# Altium schematic symbol library shield_Schlib.SchLib: 32 symbols
Pins are listed as number, name and electrical type; pins without a type are passive.

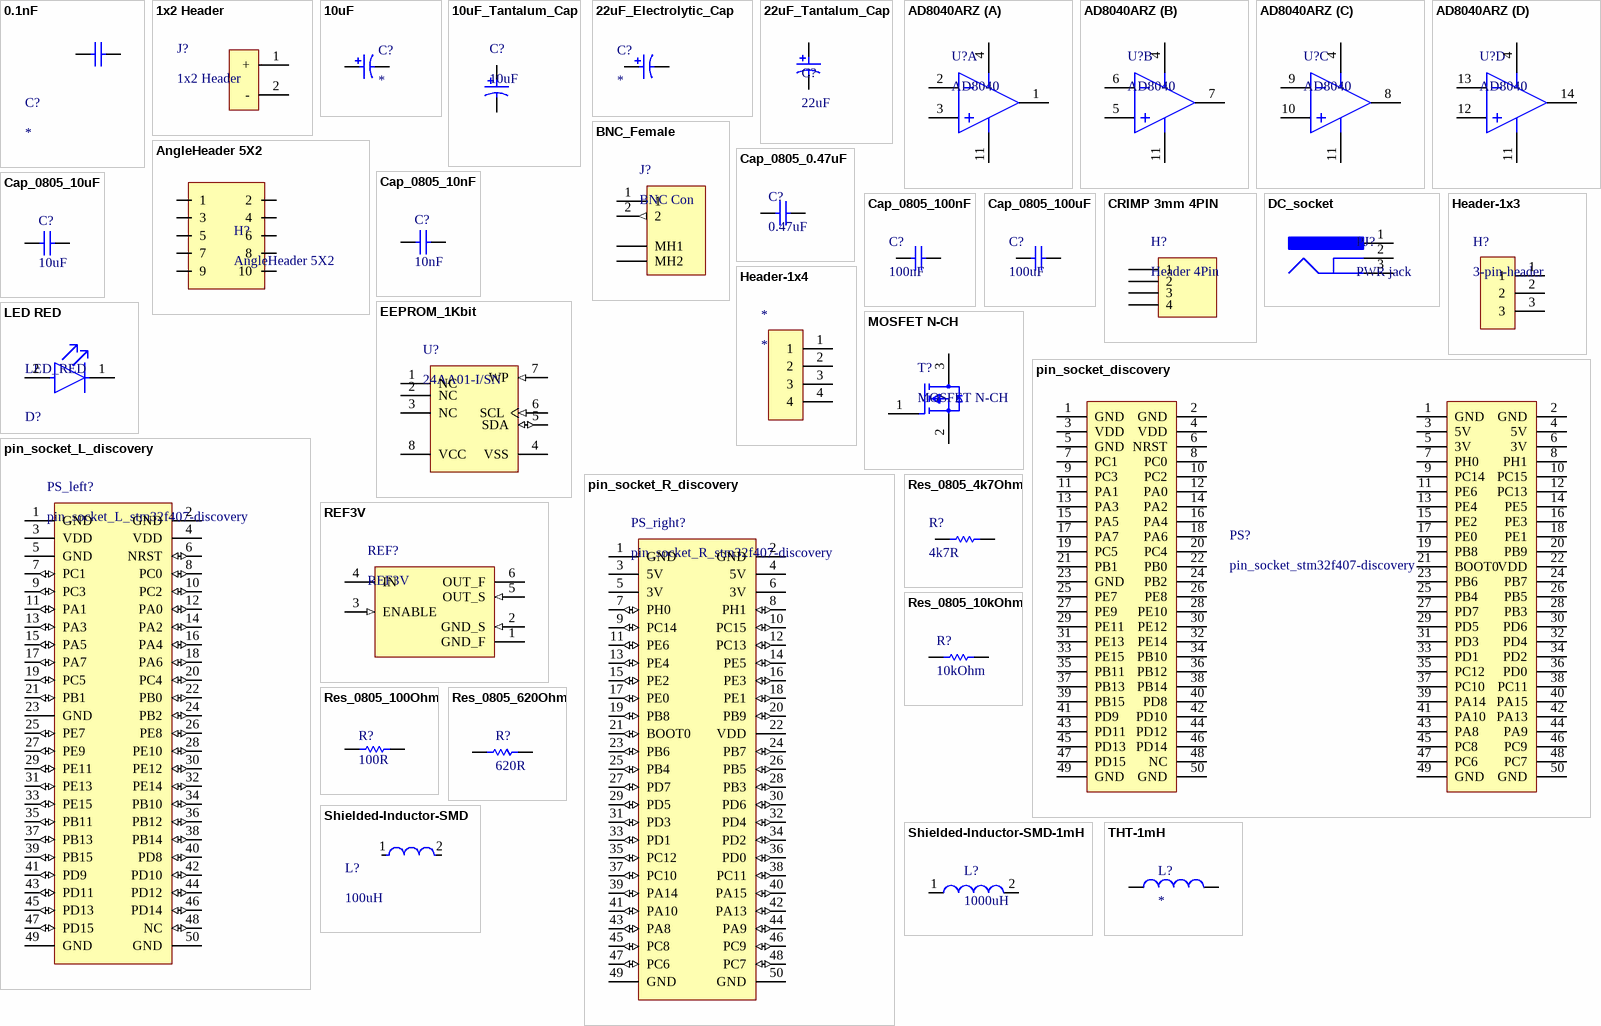
[diagram p0: symbols 0.1nF to THT-1mH]

## 0.1nF
designator C?
CERAMIC CAPACITOR 100PF 200V, C0G, 10%, 0805, FULL REEL; Product Range:-; Capacitance:100pF; Capacitance Tolerance: 10%; Dielectric Characteristic:C0G / NP0; Voltage Rating:200V; Ceramic Capacitor Case:0805 [2012 Metric] ;RoHS Compliant: Yes; Manufacturer: Kyocera AVX; Manufacturer Part Number: 08052A101KAT2A; Supplier 1: Digi-Key; RoHS: Yes; Category: Ceramic Capacitors; Stock 1: 19500; Pricing 1: 1=0,17000, 10=0,12200, 50=0,06940, 100=0,05740, 500=0,04026, 1000=0,03333 (USD); Mount: Surface Mount; Case/Package: 0805; Number of Pins: 2; Case Code (Metric): 2012; Case Code (Imperial): 0805; Min Operating Temperature: -55°C; Max Operating Temperature: 125°C; Capacitance: 100pF; Tolerance: 10%; Package Quantity: 12000; Voltage Rating: 200V; Packaging: Tape and Reel; Voltage Rating (DC): 200V; Dielectric: C0G; Termination: SMD/SMT; Dissipation Factor: 10%; Length: 2.01mm; Width: 0.049inch; Height: 0.94mm; Thickness: 0.037inch; Depth: 1.25mm; Radiation Hardening: No; ComponentLink1URL: https://datasheet.ciiva.com/206/ccog-206194.pdf?src-supplier=Digi-Key; ComponentLink1Description: https://datasheet.ciiva.com/206/ccog-206194.pdf?src-supplier=Digi-Key; ComponentLink2URL: https://datasheet.ciiva.com/5424/ccog-243403-5424072.pdf?src-supplier=Mouser; ComponentLink2Description: https://datasheet.ciiva.com/5424/ccog-243403-5424072.pdf?src-supplier=Mouser; Supplier Part Number 1: 478-08052A101KAT2ACT-ND
footprint CAP-CER-0.1nF (Chip Capacitor, 2-Leads, Body 2.00x1.25mm, IPC Low Density)
pins: 1, 2

## 1x2 Header
designator J?
Conn Shrouded Header (4 Sides) HDR 2 POS 2.5mm Solder ST Thru-Hole Box; Manufacturer: JST; Manufacturer Part Number: B2B-XH-A(LF)(SN); Number of Positions: 2; Connector Type: Male Pin; Contact Resistance: 20mR; Max Current Rating: 3A; Voltage Rating: 250V; Insulation Resistance: 1GR; Wire/Cable Gauge: 22AWG; Supplier 1: Digi-Key; RoHS: Yes; Category: FFC / FPC; Stock 1: 203108; Pricing 1: 1=0,150000, 10=0,141000, 100=0,086800, 500=0,071820, 1000=0,062840, 5000=0,053870, 10000=0,052370 (USD); Mount: Through Hole; Contact Plating: Tin,Copper,Lead; Color: Natural; Contact Material: Brass; Housing Color: White; Housing Material: Polyamide; Min Operating Temperature: -25°C; Max Operating Temperature: 85°C; Number of Rows: 1; Packaging: Bulk; Termination: Solder; Fastening Type: Detent; Current Rating: 3A; Voltage Rating (AC): 250V; Max Voltage Rating (AC): 250V; Number of Contacts: 2; Max Voltage Rating (DC): 250V; Orientation: Straight; Length: 7.4mm; Pitch: 2.5mm; Lead Pitch: 2.5mm; Depth: 5.75mm; REACH SVHC: No SVHC; Lead Free: Lead Free; ComponentLink1URL: https://datasheet.ciiva.com/26894/getdatasheetpartid-640357-26894434.pdf?src-supplier=Verical; ComponentLink1Description: https://datasheet.ciiva.com/26894/getdatasheetpartid-640357-26894434.pdf?src-supplier=Verical; ComponentLink2URL: https://datasheet.ciiva.com/11746/0900766b8082653e-11746979.pdf?src-supplier=RSComponents; ComponentLink2Description: https://datasheet.ciiva.com/11746/0900766b8082653e-11746979.pdf?src-supplier=RSComponents; ComponentLink3URL: https://datasheet.ciiva.com/26894/getdatasheetpartid-385291-26894760.pdf?src-supplier=Verical; ComponentLink3Description: https://datasheet.ciiva.com/26894/getdatasheetpartid-385291-26894760.pdf?src-supplier=Verical; ComponentLink4URL: https://datasheet.ciiva.com/8052/5448-8052024.pdf?src-supplier=Element14; ComponentLink4Description: https://datasheet.ciiva.com/8052/5448-8052024.pdf?src-supplier=Element14; ComponentLink5URL: https://datasheet.ciiva.com/20207/523653-20207167.pdf?src-supplier=Rapid+Electronics; ComponentLink5Description: https://datasheet.ciiva.com/20207/523653-20207167.pdf?src-supplier=Rapid+Electronics; Supplier Part Number 1: 455-2247-ND
footprint JST 2PIN (Header, 2-Leads, Body 7.4x5.75mm, Pitch 2.5mm)
pins: 1 +, 2 -

## 10uF
designator C?
Capacitor; Alum Electrolytic; Cap 10 uF; Tol 20%; Vol-Rtg 16 VDC; SMT; 4x5.5; Cut Tape; Manufacturer: Panasonic; Manufacturer Part Number: EEE-1CA100SR; Dielectric Material: Aluminium; Capacitance: 10uF; Ripple Current: 28mA; Voltage Rating: 16V; Life (Hours): 2000Hour; Polarity: Polar; Leakage Current: 3uA; Lead Length: 1.8mm; Supplier 1: Digi-Key; RoHS: Yes; Category: Aluminum Electrolytic Capacitors; Stock 1: 139125; Pricing 1: 1=0,26000, 10=0,17900, 50=0,11920, 100=0,10130, 500=0,07152, 1000=0,06258 (USD); Mount: Surface Mount,PCB; Case/Package: Radial; Number of Pins: 2; Contact Plating: Tin; Min Operating Temperature: -40°C; Max Operating Temperature: 85°C; Packaging: Tape and Reel; Tolerance: 20%; Ripple Current (AC): 28mA; Voltage Rating (DC): 16V; Package Quantity: 2000; Termination: SMD/SMT; Voltage: 16V; Diameter: 4mm; Length: 5.5mm; Width: 4.3mm; Height: 5.4mm; Height - Seated (Max): 0.213inch; Lead Pitch: 1mm; Radiation Hardening: No; REACH SVHC: No SVHC; Lead Free: Lead Free; ComponentLink1URL: https://datasheet.ciiva.com/11784/0900766b8078636e-11784608.pdf?src-supplier=RSComponents; ComponentLink1Description: https://datasheet.ciiva.com/11784/0900766b8078636e-11784608.pdf?src-supplier=RSComponents; ComponentLink2URL: https://datasheet.ciiva.com/19458/1355487-19458346.pdf?src-supplier=Jameco; ComponentLink2Description: https://datasheet.ciiva.com/19458/1355487-19458346.pdf?src-supplier=Jameco; ComponentLink3URL: https://datasheet.ciiva.com/2983/aba0000ce2-2983908.pdf?src-supplier=Avnet; ComponentLink3Description: https://datasheet.ciiva.com/2983/aba0000ce2-2983908.pdf?src-supplier=Avnet; ComponentLink4URL: https://datasheet.ciiva.com/46435/aba0000ce2-46435189.pdf?src-supplier=Element14; ComponentLink4Description: https://datasheet.ciiva.com/46435/aba0000ce2-46435189.pdf?src-supplier=Element14; ComponentLink5URL: https://datasheet.ciiva.com/16508/aba0000ce2-16508470.pdf?src-supplier=Future+Electronics; ComponentLink5Description: https://datasheet.ciiva.com/16508/aba0000ce2-16508470.pdf?src-supplier=Future+Electronics; ComponentLink6URL: https://datasheet.ciiva.com/43485/aba0000ce2-43485607.pdf?src-supplier=Farnell; ComponentLink6Description: https://datasheet.ciiva.com/43485/aba0000ce2-43485607.pdf?src-supplier=Farnell; ComponentLink7URL: https://datasheet.ciiva.com/14603/70255710-14603768.pdf?src-supplier=Allied+Electronics; ComponentLink7Description: https://datasheet.ciiva.com/14603/70255710-14603768.pdf?src-supplier=Allied+Electronics; ComponentLink8URL: https://datasheet.ciiva.com/17353/aba0000ce2-17353304.pdf?src-supplier=Avnet+Europe; ComponentLink8Description: https://datasheet.ciiva.com/17353/aba0000ce2-17353304.pdf?src-supplier=Avnet+Europe; ComponentLink9URL: https://datasheet.ciiva.com/14589/70255710-14589897.pdf?src-supplier=Allied+Electronics; ComponentLink9Description: https://datasheet.ciiva.com/14589/70255710-14589897.pdf?src-supplier=Allied+Electronics; ComponentLink10URL: https://datasheet.ciiva.com/46388/aba0000ce2-46388105.pdf?src-supplier=Element14; ComponentLink10Description: https://datasheet.ciiva.com/46388/aba0000ce2-46388105.pdf?src-supplier=Element14; ComponentLink11URL: https://datasheet.ciiva.com/11681/aba0000ce2-11681100.pdf?src-supplier=Avnet; ComponentLink11Description: https://datasheet.ciiva.com/11681/aba0000ce2-11681100.pdf?src-supplier=Avnet; ComponentLink12URL: https://datasheet.ciiva.com/6121/aba0000ce2-6121341.pdf?src-supplier=Farnell; ComponentLink12Description: https://datasheet.ciiva.com/6121/aba0000ce2-6121341.pdf?src-supplier=Farnell; Supplier Part Number 1: PCE3878CT-ND
footprint Electrolytic-CAP-10uF (Aluminum Electrolytic Capacitor, 2-Leads, Body 4.5x4.5mm, IPC High Density)
pins: 1, 2

## 10uF_Tantalum_Cap
designator C?, comment 10uF
CAPACITOR, CASE A, 10UF, 10V; Product Range:KEMET - T491 Series; Capacitance:10µF; Capacitance Tolerance:± 10%; Voltage Rating:10V; Capacitor Case Style:1206 [3216 Metric]; Manufacturer Size Code:A; Operating Temperature Max:125°C; ;RoHS Compliant: Yes; Manufacturer: KEMET; Manufacturer Part Number: T491A106K010AT; Dielectric Material: Tantalum; ESR (Equivalent Series Resistance): 4R; Leakage Current: 1uA; Polarity: Polar; Dissipation Factor: 6%; Life (Hours): 2000Hour; Ripple Current: 137mA; Supplier 1: Digi-Key; RoHS: Yes; Category: Tantalum Capacitors; Stock 1: 2242457; Pricing 1: 1=0.37000, 10=0.25400, 50=0.17760, 100=0.15230, 500=0.11420, 1000=0.09644 (USD); Mount: Surface Mount,PCB; Case/Package: 1206; Case Code (Metric): 3216; Case Code (Imperial): 1206; Min Operating Temperature: -55°C; Max Operating Temperature: 125°C; Capacitance: 10uF; Voltage Rating: 10V; Tolerance: 10%; Packaging: Tape and Reel; Package Quantity: 2000; Voltage Rating (DC): 10V; Termination: SMD/SMT; Voltage: 10V; Features: General Purpose; Length: 3.2mm; Width: 0.063inch; Height: 1.6mm; Height - Seated (Max): 0.071inch; Depth: 1.6mm; REACH SVHC: No SVHC; Lead Free: Lead Free; RoHS Compliant: Yes; Supplier Part Number 1: 399-3684-1-ND
footprint TANTALUM_CAP_10uF (Molded TAN Capacitor, 2-Leads, Body 3.4x1.8mm, IPC High Density)
pins: 1, 2

## 22uF_Electrolytic_Cap
designator C?
CAP, ALU ELEC, 22UF, 16V, SMD; Product Range:WX Series; Capacitance:22µF; Voltage Rating:16V; AE Capacitor Case:Radial Can - SMD; Diameter:5mm; ESR:-; Height:5.5mm; Ripple Current AC:37mA; Packaging:Cut Tape; Lifetime @ ;RoHS Compliant: Yes; Manufacturer: Nichicon; Manufacturer Part Number: UWX1C220MCL1GB; Dielectric Material: Aluminium; Polarity: Polar; Leakage Current: 3uA; Life (Hours): 2000Hour; Ripple Current: 37mA; Tolerance: 20%; Dissipation Factor: 0.16%; Supplier 1: Digi-Key; RoHS: Yes; Category: Aluminum Electrolytic Capacitors; Stock 1: 69937; Pricing 1: 1=0,28000, 10=0,19200, 50=0,12800, 100=0,10880, 500=0,07680 (USD); Mount: Surface Mount; Case/Package: Radial; Number of Pins: 2; Contact Plating: Tin; Weight: 0.01lb; Min Operating Temperature: -40°C; Max Operating Temperature: 85°C; Termination: SMD/SMT; Voltage: 16V; Capacitance: 22uF; Voltage Rating: 16V; Packaging: Tape and Reel; Ripple Current (AC): 37mA; Package Quantity: 1; Voltage Rating (DC): 16V; Diameter: 5mm; Length: 5.4mm; Width: 5.3mm; Height: 5.4mm; Height - Seated (Max): 0.213inch; Radiation Hardening: No; Lead Free: Lead Free; REACH SVHC: No SVHC; ComponentLink1URL: https://datasheet.ciiva.com/11778/0900766b80fa3a90-11778641.pdf?src-supplier=RSComponents; ComponentLink1Description: https://datasheet.ciiva.com/11778/0900766b80fa3a90-11778641.pdf?src-supplier=RSComponents; ComponentLink2URL: https://datasheet.ciiva.com/96/e-wx-96195.pdf?src-supplier=Digi-Key; ComponentLink2Description: https://datasheet.ciiva.com/96/e-wx-96195.pdf?src-supplier=Digi-Key; ComponentLink3URL: https://datasheet.ciiva.com/96/e-wx-96197.pdf?src-supplier=Digi-Key; ComponentLink3Description: https://datasheet.ciiva.com/96/e-wx-96197.pdf?src-supplier=Digi-Key; ComponentLink4URL: https://datasheet.ciiva.com/11688/e-wx-11688009.pdf?src-supplier=Avnet; ComponentLink4Description: https://datasheet.ciiva.com/11688/e-wx-11688009.pdf?src-supplier=Avnet; ComponentLink5URL: https://datasheet.ciiva.com/22693/59577-22693561.pdf?src-supplier=Element14; ComponentLink5Description: https://datasheet.ciiva.com/22693/59577-22693561.pdf?src-supplier=Element14; ComponentLink6URL: https://datasheet.ciiva.com/28458/e-wx-28458649.pdf?src-supplier=Element14; ComponentLink6Description: https://datasheet.ciiva.com/28458/e-wx-28458649.pdf?src-supplier=Element14; ComponentLink7URL: https://datasheet.ciiva.com/17354/e-wx-17354876.pdf?src-supplier=Avnet+Europe; ComponentLink7Description: https://datasheet.ciiva.com/17354/e-wx-17354876.pdf?src-supplier=Avnet+Europe; ComponentLink8URL: https://datasheet.ciiva.com/96/e-wx-96196.pdf?src-supplier=Digi-Key; ComponentLink8Description: https://datasheet.ciiva.com/96/e-wx-96196.pdf?src-supplier=Digi-Key; ComponentLink9URL: https://datasheet.ciiva.com/5362/e-wx-11809-5362473.pdf?src-supplier=Mouser; ComponentLink9Description: https://datasheet.ciiva.com/5362/e-wx-11809-5362473.pdf?src-supplier=Mouser; ComponentLink10URL: https://datasheet.ciiva.com/7781/59577-7781465.pdf?src-supplier=Element14; ComponentLink10Description: https://datasheet.ciiva.com/7781/59577-7781465.pdf?src-supplier=Element14; Supplier Part Number 1: 493-2101-1-ND
footprint Electrolytic-Cap-22uF
pins: 1, 2

## 22uF_Tantalum_Cap
designator C?, comment 22uF
VISHAY - 293D226X9020D2TE3 - Surface Mount Tantalum Capacitor, TANTAMOUNT®, 22 µF, 20 V, 2917 [7343 Metric], 293D Series, ± 10%; Manufacturer: Vishay Sprague; ESR (Equivalent Series Resistance): 700mR; Voltage Rating: 20V; Leakage Current: 4.4uA; Polarity: Polar; Dissipation Factor: 6%; Ripple Current: 200mA; Supplier 1: Digi-Key; Manufacturer Part Number: 293D226X9020D2TE3; RoHS: Yes; Category: Tantalum Capacitors; Stock 1: 854; Pricing 1: 1=0.91000, 10=0.69200, 50=0.57460, 100=0.49490 (USD); Mount: Surface Mount,PCB; Case/Package: 2917; Number of Pins: 2; Case Code (Metric): 7343; Case Code (Imperial): 2917; Dielectric Material: Tantalum; Min Operating Temperature: -55°C; Max Operating Temperature: 125°C; Capacitance: 22uF; Tolerance: 10%; Packaging: Tape and Reel; Package Quantity: 1; Voltage Rating (DC): 20V; Termination: SMD/SMT; Features: General Purpose; Series: TANTAMOUNT® 293D; Construction: Flat; Length: 7.3mm; Width: 0.169inch; Height: 2.8mm; Height - Seated (Max): 0.122inch; Depth: 4.3mm; Radiation Hardening: No; REACH SVHC: Unknown; Lead Free: Lead Free; RoHS Compliant: Yes; ComponentLink1URL: https://datasheet.ciiva.com/16470/293d-16470693.pdf?src-supplier=Avnet+Asia; ComponentLink1Description: https://datasheet.ciiva.com/16470/293d-16470693.pdf?src-supplier=Avnet+Asia; ComponentLink2URL: https://datasheet.ciiva.com/22731/1731814-22731702.pdf?src-supplier=Element14; ComponentLink2Description: https://datasheet.ciiva.com/22731/1731814-22731702.pdf?src-supplier=Element14; ComponentLink3URL: https://datasheet.ciiva.com/16632/293d-16632440.pdf?src-supplier=Avnet+Europe; ComponentLink3Description: https://datasheet.ciiva.com/16632/293d-16632440.pdf?src-supplier=Avnet+Europe; ComponentLink4URL: https://datasheet.ciiva.com/259/293d-259577.pdf?src-supplier=Digi-Key; ComponentLink4Description: https://datasheet.ciiva.com/259/293d-259577.pdf?src-supplier=Digi-Key; ComponentLink5URL: https://datasheet.ciiva.com/259/293d-259578.pdf?src-supplier=Digi-Key; ComponentLink5Description: https://datasheet.ciiva.com/259/293d-259578.pdf?src-supplier=Digi-Key; ComponentLink6URL: https://datasheet.ciiva.com/259/293d-259579.pdf?src-supplier=Digi-Key; ComponentLink6Description: https://datasheet.ciiva.com/259/293d-259579.pdf?src-supplier=Digi-Key; ComponentLink7URL: https://datasheet.ciiva.com/12883/293d-239871-12883100.pdf?src-supplier=Mouser; ComponentLink7Description: https://datasheet.ciiva.com/12883/293d-239871-12883100.pdf?src-supplier=Mouser; ComponentLink8URL: https://datasheet.ciiva.com/18444/70212567-18444012.pdf?src-supplier=Allied+Electronics; ComponentLink8Description: https://datasheet.ciiva.com/18444/70212567-18444012.pdf?src-supplier=Allied+Electronics; ComponentLink9URL: https://datasheet.ciiva.com/3003/293d-3003934.pdf?src-supplier=Avnet; ComponentLink9Description: https://datasheet.ciiva.com/3003/293d-3003934.pdf?src-supplier=Avnet; ComponentLink10URL: https://datasheet.ciiva.com/3003/293d-3003935.pdf?src-supplier=Avnet; ComponentLink10Description: https://datasheet.ciiva.com/3003/293d-3003935.pdf?src-supplier=Avnet; Supplier Part Number 1: 718-1069-1-ND
footprint Tantalum_Cap_SMD_22uF (Molded Capacitor, 2-Leads, Body 7.6x4.6mm, IPC Low Density)
pins: 1, 2

## AD8040ARZ
designator U?, comment AD8040
Quad Channel RRIO Operational Amplifier, 125 MHz BW, 62 V/us SR, Industrial, 14-pin SOIC (R-14), Tube; Manufacturer: Analog Devices; PartNumber: AD8040ARZ; Slew Rate: 62V/us; Amplifiers Per Package: 4; V Span Max: 12V; Input Offset Voltage: 1.6mV; Small Signal Bandwidth: 125MHz; Iq/Amp: 1.5mA; V Span Min: 2.7V; Input Bias Current: 700nA; ComponentLink2Description: Datasheet; ComponentLink3Description: Package Specification; ComponentLink1Description: Manufacturer URL; Generic Part Number: AD8040; ComponentLink2URL: http://www.analog.com/static/imported-files/data_sheets/AD8029_8030_8040.pdf; PackageDescription: 14-Pin Standard Small Outline Package, Body 8.65 x 3.9 mm, Pitch 1.27 mm; Code_JEDEC: MS-012-AB; ComponentLink1URL: http://www.analog.com/en/index.html; DatasheetVersion: Rev. B; PackageVersion: 060606-A; ComponentLink3URL: http://www.analog.com/static/imported-files/packages/PKG_PDF/SOIC_Narrow%20(R)/R_14.pdf; Mounting Technology: Surface Mount; PackageReference: R-14
footprint AD8040 (SOIC, 14-Leads, Body 8.65x3.9mm, Pitch 1.27mm, IPC Low Density)
pins on every part: 4 +VS (power), 11 -VS (power)
part A pins: 1 VOUT 1, 2 -IN 1, 3 +IN 1
part B pins: 5 +IN 2, 6 -IN 2, 7 VOUT 2
part C pins: 8 VOUT 3, 9 -IN 3, 10 +IN 3
part D pins: 12 +IN 4, 13 -IN 4, 14 VOUT 4

## AngleHeader 5X2
designator H?
footprint AngleHeader 5X2 (10 pins, right angled, gold plating)
pins: 1, 2 3, 3 5, 4 7, 5 9, 6 2, 7 4, 8 6, 9 8, 10

## BNC_Female
designator J?, comment BNC Con
Female Connector, Pitch 2.54 mm, 1 x 2 Position, Height 15.8 mm, Tail Length 3.8 mm, / -55 to 85 degC, RoHS, Bulk; Manufacturer: TE Connectivity; Connector Body Style: RightAngleJack; Frequency Max: 4GHz; Coaxial Termination: Solder; Connector Mounting: PCBMount; SVHC: ToBeAdvised; Connector Type: BNCCoaxial; Impedance: 50ohm; Coaxial Cable Types: -; Manufacturer URL: http://www.te.com/; Package Reference: 1-1337543-0; Product Range: -; Datasheet URL: http://www.te.com/commerce/DocumentDelivery/DDEController?Action=showdoc&DocId=Customer+Drawing%7F1337543%7FG%7Fpdf%7FEnglish%7FENG_CD_1337543_G.pdf%7F1-1337543-0; Contact Plating: GoldPlatedContacts; Mounting Technology: ThroughHole; Package Description: Female Connector, Pitch 2.54 mm, 1 x 2 Position, Height 15.8 mm, Tail Length 3.8 mm; Contact Material: Brass; Datasheet Version: Rev. G, 12/2012
footprint BNC_CONNECTOR_F (SMD, 2-Leads, Body 34.9x14.7mm, Pitch 2.54mm)
pins: 1, 2 (out), MH1, MH2

## Cap_0805_0.47uF
designator C?, comment 0.47uF
Multilayer Ceramic Capacitors MLCC - SMD/SMT 10volts 0.47uF X7R 10%; Manufacturer: KEMET; Manufacturer Part Number: C0805C474K8RACTU; Capacitance: 470nF; Voltage Rating: 10V; Supplier 1: Digi-Key; RoHS: Yes; Category: Ceramic Capacitors; Stock 1: 149446; Pricing 1: 1=0,20000, 10=0,13600, 50=0,08160, 100=0,06900, 500=0,04720, 1000=0,04175 (USD); Mount: Surface Mount; Case/Package: 0805; Weight: 0.000194oz; Case Code (Metric): 2012; Case Code (Imperial): 0805; Dielectric Material: Ceramic; Min Operating Temperature: -55°C; Max Operating Temperature: 125°C; Package Quantity: 1; Tolerance: 10%; Packaging: Tape and Reel; Voltage Rating (DC): 10V; Dielectric: X7R; Termination: SMD/SMT; Length: 2mm; Height: 0.9mm; Width: 0.049inch; Thickness: 0.055inch; Depth: 1.25mm; Radiation Hardening: No; REACH SVHC: No SVHC; ComponentLink1URL: http://www.mouser.com/ds/2/212/KEM_C1002_X7R_SMD-1102033.pdf?src-supplier=Mouser; ComponentLink1Description: http://www.mouser.com/ds/2/212/KEM_C1002_X7R_SMD-1102033.pdf?src-supplier=Mouser; ComponentLink2URL: http://components.arrow.com/part/dataview/0323_00331026?src-supplier=Arrow+Europe; ComponentLink2Description: http://components.arrow.com/part/dataview/0323_00331026?src-supplier=Arrow+Europe; ComponentLink3URL: https://api.kemet.com/component-edge/download/datasheet/C0805C474K8RACTU.pdf?src-supplier=Digi-Key; ComponentLink3Description: https://api.kemet.com/component-edge/download/datasheet/C0805C474K8RACTU.pdf?src-supplier=Digi-Key; ComponentLink4URL: https://search.kemet.com/component-edge/download/datasheet/C0805C474K8RACTU.pdf?src-supplier=Digi-Key; ComponentLink4Description: https://search.kemet.com/component-edge/download/datasheet/C0805C474K8RACTU.pdf?src-supplier=Digi-Key; ComponentLink5URL: http://capacitoredge.kemet.com/capedge2/DataSheet?pn=C0805C474K8RACTU&src-supplier=Avnet; ComponentLink5Description: http://capacitoredge.kemet.com/capedge2/DataSheet?pn=C0805C474K8RACTU&src-supplier=Avnet; ComponentLink6URL: http://components.arrow.com/part/dataview/2092505S3976494N7429?src-supplier=Arrow; ComponentLink6Description: http://components.arrow.com/part/dataview/2092505S3976494N7429?src-supplier=Arrow; Supplier Part Number 1: 399-9247-1-ND
footprint CHIP CAPACITOR 0805 (Chip Capacitor, 2-Leads, Body 2.00x1.25mm, IPC Low Density)
pins: 1, 2

## Cap_0805_10nF
designator C?, comment 10nF
Manufacturer: Kemet; Part Number: C0805C103K5RACTU
footprint CHIP CAPACITOR 0805 (Chip Capacitor, 2-Leads, Body 2.00x1.25mm, IPC Low Density)
pins: 1, 2
1 alternate drawing of the same symbol

## Cap_0805_10uF
designator C?, comment 10uF
Cap 0805 10uF; Part Number: C0805C106K8PACTU; Manufacturer: Kemet
footprint CHIP CAPACITOR 0805 (Chip Capacitor, 2-Leads, Body 2.00x1.25mm, IPC Low Density)
pins: 1, 2
1 alternate drawing of the same symbol

## Cap_0805_100nF
designator C?, comment 100nF
YAGEO - CC0805KRX7R7BB104 - SMD Multilayer Ceramic Capacitor, 0.1 µF, 16 V, 0805 [2012 Metric], ± 10%, X7R, CC Series; Voltage Rating: 16V; Insulation Resistance: 100GR; Supplier 1: Digi-Key; Manufacturer: Yageo; RoHS: Yes; Category: Ceramic Capacitors; Stock 1: 223308; Pricing 1: 1=0,12000, 10=0,08500, 50=0,04820, 100=0,03990, 500=0,02794, 1000=0,02314 (USD); Mount: Surface Mount; Case/Package: 0805; Number of Pins: 2; Case Code (Metric): 2012; Case Code (Imperial): 0805; Min Operating Temperature: -55°C; Max Operating Temperature: 125°C; Capacitance: 100nF; Tolerance: 10%; Packaging: Tape and Reel; Dielectric: X7R; Package Quantity: 1; Voltage Rating (DC): 16V; Termination: SMD/SMT; Voltage: 16V; Resistor Type: Ceramic; Length: 2mm; Width: 0.049inch; Height: 0.85mm; Depth: 1.25mm; Thickness: 0.033inch; Radiation Hardening: No; Lead Free: Lead Free; REACH SVHC: No SVHC; Halogen Free: Halogen Free; ComponentLink1URL: https://datasheet.ciiva.com/8034/1784427-8034017.pdf?src-supplier=Element14; ComponentLink1Description: https://datasheet.ciiva.com/8034/1784427-8034017.pdf?src-supplier=Element14; ComponentLink2URL: https://datasheet.ciiva.com/11786/0900766b80d84f1d-11786102.pdf?src-supplier=RSComponents; ComponentLink2Description: https://datasheet.ciiva.com/11786/0900766b80d84f1d-11786102.pdf?src-supplier=RSComponents; ComponentLink3URL: https://datasheet.ciiva.com/15189/getdatasheetpartid-314877-15189221.pdf?src-supplier=Verical; ComponentLink3Description: https://datasheet.ciiva.com/15189/getdatasheetpartid-314877-15189221.pdf?src-supplier=Verical; ComponentLink4URL: https://datasheet.ciiva.com/144/mlccorderingcode-144998.pdf?src-supplier=Digi-Key; ComponentLink4Description: https://datasheet.ciiva.com/144/mlccorderingcode-144998.pdf?src-supplier=Digi-Key; ComponentLink5URL: https://datasheet.ciiva.com/144/mlccorderingcode-144999.pdf?src-supplier=Digi-Key; ComponentLink5Description: https://datasheet.ciiva.com/144/mlccorderingcode-144999.pdf?src-supplier=Digi-Key; ComponentLink6URL: https://datasheet.ciiva.com/145/mlccorderingcode-145000.pdf?src-supplier=Digi-Key; ComponentLink6Description: https://datasheet.ciiva.com/145/mlccorderingcode-145000.pdf?src-supplier=Digi-Key; ComponentLink7URL: https://datasheet.ciiva.com/11465/upy-gphc-x7r-6-3v-to-50v-8-11465289.pdf?src-supplier=Avnet; ComponentLink7Description: https://datasheet.ciiva.com/11465/upy-gphc-x7r-6-3v-to-50v-8-11465289.pdf?src-supplier=Avnet; ComponentLink8URL: https://datasheet.ciiva.com/17436/upy-gphc-x7r-6-3v-to-50v-8-17436617.pdf?src-supplier=Avnet+Europe; ComponentLink8Description: https://datasheet.ciiva.com/17436/upy-gphc-x7r-6-3v-to-50v-8-17436617.pdf?src-supplier=Avnet+Europe; ComponentLink9URL: https://datasheet.ciiva.com/7978/1489800-7978204.pdf?src-supplier=Element14; ComponentLink9Description: https://datasheet.ciiva.com/7978/1489800-7978204.pdf?src-supplier=Element14; ComponentLink10URL: https://datasheet.ciiva.com/8034/1784427-8034015.pdf?src-supplier=Element14; ComponentLink10Description: https://datasheet.ciiva.com/8034/1784427-8034015.pdf?src-supplier=Element14; Manufacturer Part Number: CC0805KRX7R7BB104; Supplier Part Number 1: 311-1142-1-ND
footprint CHIP CAPACITOR 0805 (Chip Capacitor, 2-Leads, Body 2.00x1.25mm, IPC Low Density)
pins: 1, 2

## Cap_0805_100uF
designator C?, comment 100uF
Chip Capacitor, 100 uF, +/- 20%, 6.3 V, -55 to 85 degC, 0805 (2012 Metric), RoHS, Tape and Reel; Manufacturer: Murata; Voltage Rating (DC): 6.3V; Dielectric: X5R; RoHSCompliant: True; Case Code (Metric): 2012; Manufacturer URL: http://www.murata.com/; Length: 0.079inch; Mounting Technology: SurfaceMount; Datasheet URL: http://search.murata.co.jp/Ceramy/image/img/A01X/G101/ENG/GRM21BR60J107ME15-01.pdf; Max Operating Temperature: 85degC; Thickness: 0.057inch; Capacitance: 100uF; REACH SVHC: NoSVHC; Case Code (Imperial): 0805; Voltage Rating: 6.3V; Case/Package: 0805; Lead Free: LeadFree; Datasheet Version: 03/2016; Min Operating Temperature: -55degC; Package Reference: 805; Mount: SurfaceMount; Tolerance: 20%; Width: 0.049inch; Packaging: CutTape; Package Description: 2-Pin Surface Mount Device, Body 2 x 1.25 mm
footprint CHIP CAPACITOR 0805 (Chip Capacitor, 2-Leads, Body 2.00x1.25mm, IPC Low Density)
pins: 1, 2

## CRIMP 3mm 4PIN
designator H?, comment Header 4Pin
footprint CRIMP 3mm  4 pins
pins: 1, 2, 3, 4

## DC_socket
designator PJ?, comment PWR jack
CONN PWR JACK 2.5X5.5MM SOLDER; Manufacturer: CUI; Manufacturer Part Number: PJ-102B; Shielding: Unshielded; Current Rating: 2.5A; Gender: Male; Voltage Rating: 24V; Number of Conductors: 2; Insulation Resistance: 100MR; Supplier 1: Digi-Key; RoHS: Yes; Category: Connectors; Stock 1: 26389; Pricing 1: 1=0,64000, 10=0,60000, 25=0,54000, 50=0,48000, 100=0,46000, 250=0,42000, 500=0,40000, 1000=0,33000, 2500=0,30000 (USD); Mount: Through Hole; Contact Plating: Nickel; Color: Black; Contact Material: Copper; Housing Color: Black; Housing Material: Thermoplastic; Min Operating Temperature: -25°C; Max Operating Temperature: 85°C; Packaging: Bulk; Package Quantity: 280; Termination: Through Hole; Orientation: Horizontal; Connector Type: Jack; Contact Gender: Male; Diameter: 2.5mm; Lead Free: Lead Free; Flammability Rating: UL94 V-0; ComponentLink1URL: http://www.mouser.com/ds/2/670/PJ-102B-524146.pdf?src-supplier=Mouser; ComponentLink1Description: http://www.mouser.com/ds/2/670/PJ-102B-524146.pdf?src-supplier=Mouser; ComponentLink2URL: http://www.cui.com/Product/Resource/FuturePDF/PJ-102B.pdf?src-supplier=Future+Electronics; ComponentLink2Description: http://www.cui.com/Product/Resource/FuturePDF/PJ-102B.pdf?src-supplier=Future+Electronics; ComponentLink3URL: https://www.cui.com/product/resource/digikeypdf/pj-102b.pdf?src-supplier=Digi-Key; ComponentLink3Description: https://www.cui.com/product/resource/digikeypdf/pj-102b.pdf?src-supplier=Digi-Key; Supplier Part Number 1: CP-102B-ND
footprint DC SOCKET (THD, 3-Leads, Body 14.4x9mm, Height 11mm)
pins: 1, 2, 3

## EEPROM_1Kbit
designator U?, comment 24AA01-I/SN
1Kbit, 400kHz, 1.8V, I2C Serial EEPROM, 8-Pin SOIC 150mil, Industrial Temperature; PackageDescription: 8-Lead Plastic Small Outline (SN) - Narrow, 3.90mm Body [SOIC]; DatasheetVersion: revJ, Jan-2009; PackageVersion: revBB, Aug-2009; Code_IPC: SOIC127P600-8; Code_JEDEC: MS-012; PackageReference: SOIC-SN8
footprint EEPROM CHIP (SOIC, 8-Leads, Body 4.9x3.9mm, Pitch 1.27mm, IPC Low Density)
pins: 1 NC, 2 NC, 3 NC, 4 VSS (power), 5 SDA (io), 6 SCL (in), 7 WP (in), 8 VCC (power)

## Header-1x3
designator H?, comment 3-pin-header
CONN HEADER VERT 3POS 2MM; Manufacturer: 3M; Manufacturer Part Number: 951103-8622-AR; Number of Positions: 3; Connector Type: Male Pin; Gender: Male; Current Rating: 1A; Voltage Rating: 1kV; Contact Resistance: 20mR; Contact Post Length: 2.8mm; Supplier 1: Digi-Key; RoHS: Yes; Category: Headers and Wire Housings; Stock 1: 1610; Pricing 1: 1=0,29000, 10=0,27500, 25=0,23560, 50=0,20020, 100=0,19230, 250=0,17264, 500=0,16480 (USD); Mount: Through Hole; Color: Black; Contact Plating: Gold; Contact Material: Copper Alloy,Copper; Housing Material: Thermoplastic; Housing Color: Black; Min Operating Temperature: -25°C; Max Operating Temperature: 105°C; Number of Rows: 1; Packaging: Bulk; Termination: Solder; Number of Contacts: 3; Package Quantity: 3000; Contact Gender: Male; Orientation: Straight; Max Current Rating: 1A; Length: 6mm; Pitch: 2mm; Contact Mating Length: 0.173inch; Depth: 2mm; REACH SVHC: Unknown; ComponentLink1URL: https://datasheet.ciiva.com/730/ts2156-730432.pdf?src-supplier=Digi-Key; ComponentLink1Description: https://datasheet.ciiva.com/730/ts2156-730432.pdf?src-supplier=Digi-Key; ComponentLink2URL: https://datasheet.ciiva.com/14622/70237750-14622743.pdf?src-supplier=Allied+Electronics; ComponentLink2Description: https://datasheet.ciiva.com/14622/70237750-14622743.pdf?src-supplier=Allied+Electronics; ComponentLink3URL: https://datasheet.ciiva.com/7997/ts2156-7997244.pdf?src-supplier=Element14; ComponentLink3Description: https://datasheet.ciiva.com/7997/ts2156-7997244.pdf?src-supplier=Element14; Supplier Part Number 1: 3M156413-03-ND
footprint Header-3-Pin
pins: 1, 2, 3

## Header-1x4
designator *
footprint Header-1x4
pins: 1, 2, 3, 4

## LED RED
designator D?, comment LED_RED
LED RED CLEAR CHIP SMD; Forward Current: 30mA; Test Current: 10mA; Number of Elements: 1; Viewing Angle: 130°; Dominant Wavelength: 621nm; Forward Voltage: 2V; Lens Style: Diffused; Power Rating: 100mW; Reverse Voltage: 5V; Wavelength: 630nm; Luminous Intensity: 6mcd; Lens Color: Colorless; Case/Package: 1206; Case Code (Imperial): 1206; Package Quantity: 1; Lead Free: Lead Free; Case Code (Metric): 3216; Height: 1.1mm; Lens Transparency: Clear; Mount: Surface Mount; Depth: 1.6mm; Number of LEDs: 1; Power Dissipation: 100mW; Max Operating Temperature: 85°C; Width: 1.6mm; Color: Red; Number of Pins: 2; Min Operating Temperature: -55°C; Packaging: Tape and Reel; Radiation Hardening: No; Illumination Color: Red; Length: 3.2mm
footprint LED 0805 RED
pins: 1 C, 2 A

## MOSFET N-CH
designator T?
Trans MOSFET N-CH 30V 5.7A 3-Pin SOT-23; Manufacturer: Alpha & Omega Semiconductor; Manufacturer Part Number: AO3400A; Max Power Dissipation: 1.4W; Input Capacitance: 630pF; Gate to Source Voltage (Vgs): 12V; Rds On Max: 26.5mR; Number of Elements: 1; Supplier 1: Digi-Key; RoHS: Yes; Category: MOSFETs; Pricing 1: 1=0,36000, 10=0,27500, 25=0,24760, 100=0,13050, 500=0,11566, 1000=0,09000 (USD); Mount: Surface Mount; Case/Package: SOT-23; Number of Pins: 3; Min Operating Temperature: -55°C; Max Operating Temperature: 150°C; Packaging: Tape and Reel; Drain to Source Voltage (Vdss): 30V; Continuous Drain Current (ID): 5.7A; Power Dissipation: 1.4W; Radiation Hardening: No; Lead Free: Lead Free; ComponentLink1URL: https://datasheet.ciiva.com/940/ao3400a-940739.pdf?src-supplier=Digi-Key; ComponentLink1Description: https://datasheet.ciiva.com/940/ao3400a-940739.pdf?src-supplier=Digi-Key; ComponentLink2URL: https://datasheet.ciiva.com/26906/getdatasheetpartid-64438-26906526.pdf?src-supplier=Verical; ComponentLink2Description: https://datasheet.ciiva.com/26906/getdatasheetpartid-64438-26906526.pdf?src-supplier=Verical; ComponentLink3URL: https://datasheet.ciiva.com/940/ao3400a-940740.pdf?src-supplier=Digi-Key; ComponentLink3Description: https://datasheet.ciiva.com/940/ao3400a-940740.pdf?src-supplier=Digi-Key; ComponentLink4URL: https://datasheet.ciiva.com/940/ao3400a-940741.pdf?src-supplier=Digi-Key; ComponentLink4Description: https://datasheet.ciiva.com/940/ao3400a-940741.pdf?src-supplier=Digi-Key; Supplier Part Number 1: 785-1000-1-ND
footprint MOSFET N-CH
pins: 1 G, 2 S, 3 D

## pin_socket_discovery
designator PS?, comment pin_socket_stm32f407-discovery
Socket for STM32F407-discovery pinout
footprint PIN SOCKET DISCOVERY
pins: 1 GND, 1 GND, 2 GND, 2 GND, 3 VDD, 3 5V, 4 VDD, 4 5V, 5 GND, 5 3V, 6 NRST, 6 3V, 7 PC1, 7 PH0, 8 PC0, 8 PH1, 9 PC3, 9 PC14, 10 PC2, 10 PC15, 11 PA1, 11 PE6, 12 PA0, 12 PC13, 13 PA3, 13 PE4, 14 PA2, 14 PE5, 15 PA5, 15 PE2, 16 PA4, 16 PE3, 17 PA7, 17 PE0, 18 PA6, 18 PE1, 19 PC5, 19 PB8, 20 PC4, 20 PB9, 21 PB1, 21 BOOT0, 22 PB0, 22 VDD, 23 GND, 23 PB6, 24 PB2, 24 PB7, 25 PE7, 25 PB4, 26 PE8, 26 PB5, 27 PE9, 27 PD7, 28 PE10, 28 PB3, 29 PE11, 29 PD5, 30 PE12, 30 PD6, 31 PE13, 31 PD3, 32 PE14, 32 PD4, 33 PE15, 33 PD1, 34 PB10, 34 PD2, 35 PB11, 35 PC12, 36 PB12, 36 PD0, 37 PB13, 37 PC10, 38 PB14, 38 PC11, 39 PB15, 39 PA14, 40 PD8, 40 PA15, 41 PD9, 41 PA10, 42 PD10, 42 PA13, 43 PD11, 43 PA8, 44 PD12, 44 PA9, 45 PD13, 45 PC8, 46 PD14, 46 PC9, 47 PD15, 47 PC6, 48 NC, 48 PC7, 49 GND, 49 GND, 50 GND, 50 GND

## pin_socket_L_discovery
designator PS_left?, comment pin_socket_L_stm32f407-discovery
Socket for STM32F407-discovery pinout
footprint pin_socket_L_discovery
pins: 1 GND, 2 GND, 3 VDD (power), 4 VDD (power), 5 GND, 6 NRST (io), 7 PC1 (io), 8 PC0 (io), 9 PC3 (io), 10 PC2 (io), 11 PA1 (io), 12 PA0 (io), 13 PA3 (io), 14 PA2 (io), 15 PA5 (io), 16 PA4 (io), 17 PA7 (io), 18 PA6 (io), 19 PC5 (io), 20 PC4 (io), 21 PB1 (io), 22 PB0 (io), 23 GND, 24 PB2 (io), 25 PE7 (io), 26 PE8 (io), 27 PE9 (io), 28 PE10 (io), 29 PE11 (io), 30 PE12 (io), 31 PE13 (io), 32 PE14 (io), 33 PE15 (io), 34 PB10 (io), 35 PB11 (io), 36 PB12 (io), 37 PB13 (io), 38 PB14 (io), 39 PB15 (io), 40 PD8 (io), 41 PD9 (io), 42 PD10 (io), 43 PD11 (io), 44 PD12 (io), 45 PD13 (io), 46 PD14 (io), 47 PD15 (io), 48 NC (io), 49 GND, 50 GND

## pin_socket_R_discovery
designator PS_right?, comment pin_socket_R_stm32f407-discovery
Socket for STM32F407-discovery pinout
footprint pin_socket_R_discovery
pins: 1 GND, 2 GND, 3 5V (power), 4 5V (power), 5 3V (power), 6 3V (power), 7 PH0 (io), 8 PH1 (io), 9 PC14 (io), 10 PC15 (io), 11 PE6 (io), 12 PC13 (io), 13 PE4 (io), 14 PE5 (io), 15 PE2 (io), 16 PE3 (io), 17 PE0 (io), 18 PE1 (io), 19 PB8 (io), 20 PB9 (io), 21 BOOT0 (io), 22 VDD (power), 23 PB6 (io), 24 PB7 (io), 25 PB4 (io), 26 PB5 (io), 27 PD7 (io), 28 PB3 (io), 29 PD5 (io), 30 PD6 (io), 31 PD3 (io), 32 PD4 (io), 33 PD1 (io), 34 PD2 (io), 35 PC12 (io), 36 PD0 (io), 37 PC10 (io), 38 PC11 (io), 39 PA14 (io), 40 PA15 (io), 41 PA10 (io), 42 PA13 (io), 43 PA8 (io), 44 PA9 (io), 45 PC8 (io), 46 PC9 (io), 47 PC6 (io), 48 PC7 (io), 49 GND, 50 GND

## REF3V
designator REF?
V-Ref Precision 3V 10mA 6-Pin SOT-23 T/R; Manufacturer: Texas Instruments; Manufacturer Part Number: REF3230AIDBVT; Max Input Voltage: 5.5V; Min Input Voltage: 3.05V; Temperature Coefficient: 7ppm/°C; Quiescent Current: 120uA; Reference Type: Series,Fixed; Tolerance: 0.2%; Number of Channels: 1; Operating Supply Current: 100uA; Min Output Voltage: 2.994V; Supplier 1: Digi-Key; RoHS: Yes; Category: Voltage References; Stock 1: 34; Pricing 1: 1=5,15000, 10=4,62900, 25=4,37640, 100=3,59830 (USD); Case/Package: SOT-23; Number of Pins: 6; Weight: 0.00127oz; Min Operating Temperature: -40°C; Max Operating Temperature: 125°C; Package Quantity: 1; Packaging: Tape and Reel; Output Voltage: 3V; Max Output Current: 10mA; Max Supply Current: 120uA; Max Output Voltage: 3V; Output Current: 10mA; Reference Voltage: 3V; Length: 2.9mm; Height: 1.15mm; Width: 1.6mm; Radiation Hardening: No; Lead Free: Lead Free; REACH SVHC: No SVHC; ComponentLink1URL: https://datasheet.ciiva.com/2007/ref3212-2007476.pdf?src-supplier=Digi-Key; ComponentLink1Description: https://datasheet.ciiva.com/2007/ref3212-2007476.pdf?src-supplier=Digi-Key; ComponentLink2URL: https://datasheet.ciiva.com/2007/ref3212-2007477.pdf?src-supplier=Digi-Key; ComponentLink2Description: https://datasheet.ciiva.com/2007/ref3212-2007477.pdf?src-supplier=Digi-Key; ComponentLink3URL: https://datasheet.ciiva.com/26066/ref3212-26066341.pdf?src-supplier=Avnet+Europe; ComponentLink3Description: https://datasheet.ciiva.com/26066/ref3212-26066341.pdf?src-supplier=Avnet+Europe; ComponentLink4URL: https://datasheet.ciiva.com/2007/ref3212-2007478.pdf?src-supplier=Digi-Key; ComponentLink4Description: https://datasheet.ciiva.com/2007/ref3212-2007478.pdf?src-supplier=Digi-Key; ComponentLink5URL: https://datasheet.ciiva.com/46424/1828369-46424711.pdf?src-supplier=Element14; ComponentLink5Description: https://datasheet.ciiva.com/46424/1828369-46424711.pdf?src-supplier=Element14; ComponentLink6URL: https://datasheet.ciiva.com/46424/1828369-46424712.pdf?src-supplier=Element14; ComponentLink6Description: https://datasheet.ciiva.com/46424/1828369-46424712.pdf?src-supplier=Element14; Supplier Part Number 1: 296-REF3230AIDBVTCT-ND
footprint REF3V (SOT23, 6-Leads, Body 3.05x1.75mm, Pitch 0.95mm, IPC Low Density)
pins: 1 GND_F (power) "Ground connection of the device", 2 GND_S (in) "Ground sense at the load", 3 ENABLE (in) "This pin enables and disables the device", 4 IN (power) "Positive supply voltage", 5 OUT_S (in) "Sense connection at the load", 6 OUT_F (power) "Output of Reference Voltage"

## Res_0805_4k7Ohm
designator R?, comment 4k7R
Chip Resistor in 0805 package
footprint Chip Resistor 0805 (Chip Resistor, 2-Leads, Body 2.1x1.35mm, IPC Low Density)
pins: 1, 2

## Res_0805_10kOhm
designator R?, comment 10kOhm
Chip Resistor, 10 KOhm, +/- 1%, 0.125 W, -55 to 155 degC, 0805 (2012 Metric), RoHS, Tape and Reel; Manufacturer: Yageo; Voltage Rating: 150 V; Mount: Surface Mount; ComponentLink1Description: Manufacturer URL; ComponentLink2URL: http://www.yageo.com/documents/recent/PYu-RC_Group_51_RoHS_L_04.pdf; Pins: 2; Length: 2 mm; Min Operating Temperature: -55 degC; Height: 0.5 mm; Mounting Technology: Surface Mount; RoHSCompliant: true; REACH SVHC: No SVHC; ComponentLink1URL: http://www.yageo.com/; Max Operating Temperature: 155 degC; PackageReference: 0805; DatasheetVersion: Rev. 4, 02/2016; Package Quantity: 5000; Packaging: Tape and Reel; ComponentLink2Description: Datasheet; PackageDescription: 2-Pin Surface Mounted Device, Body 2 x 1.25 mm
footprint Chip Resistor 0805 (Chip Resistor, 2-Leads, Body 2.1x1.35mm, IPC Low Density)
pins: 1, 2

## Res_0805_100Ohm
designator R?, comment 100R
Manufacturer: Yageo; Part Number: RT0805DRD07100RL
footprint Chip Resistor 0805 (Chip Resistor, 2-Leads, Body 2.1x1.35mm, IPC Low Density)
pins: 1, 2
1 alternate drawing of the same symbol

## Res_0805_620Ohm
designator R?, comment 620R
Res Thin Film 0805 620 Ohm 0.1% 0.125W(1/8W) ±25ppm/C Molded SMD Automotive Punched T/R; Manufacturer: Panasonic; Manufacturer Part Number: ERA-6AEB621V; Temperature Coefficient: 25ppm/°C; Power Rating: 125mW; Voltage Rating (DC): 100V; Supplier 1: Digi-Key; RoHS: Yes; Category: Chip SMD Resistors; Stock 1: 1336; Pricing 1: 1=0,31000, 10=0,26200, 100=0,10230, 1000=0,04284, 2500=0,03927 (USD); Mount: Surface Mount; Case/Package: 0805; Number of Pins: 2; Case Code (Metric): 2012; Case Code (Imperial): 0805; Contact Plating: Tin; Weight: 0.000194oz; Min Operating Temperature: -55°C; Max Operating Temperature: 155°C; Tolerance: 0.1%; Packaging: Tape and Reel; Resistance: 620R; Resistor Type: Thin Film; Package Quantity: 5000; Number of Terminations: 2; Max Power Dissipation: 125mW; Termination: SMD/SMT; Voltage Rating: 100V; Features: Automotive AEC-Q200; Length: 2mm; Width: 0.049inch; Height: 0.024inch; Depth: 1.25mm; Radiation Hardening: No; Lead Free: Lead Free; Military Standard: Not; REACH SVHC: No SVHC; ComponentLink1URL: https://datasheet.ciiva.com/29184/452957-da-01-en-widerstand-0805-era-29184095.pdf?src-supplier=Conrad; ComponentLink1Description: https://datasheet.ciiva.com/29184/452957-da-01-en-widerstand-0805-era-29184095.pdf?src-supplier=Conrad; ComponentLink2URL: https://datasheet.ciiva.com/5915/485442-5915222.pdf?src-supplier=Farnell; ComponentLink2Description: https://datasheet.ciiva.com/5915/485442-5915222.pdf?src-supplier=Farnell; ComponentLink3URL: https://datasheet.ciiva.com/5915/485442-5915223.pdf?src-supplier=Farnell; ComponentLink3Description: https://datasheet.ciiva.com/5915/485442-5915223.pdf?src-supplier=Farnell; ComponentLink4URL: https://datasheet.ciiva.com/5915/485442-5915224.pdf?src-supplier=Farnell; ComponentLink4Description: https://datasheet.ciiva.com/5915/485442-5915224.pdf?src-supplier=Farnell; ComponentLink5URL: https://datasheet.ciiva.com/22699/485442-22699418.pdf?src-supplier=Element14; ComponentLink5Description: https://datasheet.ciiva.com/22699/485442-22699418.pdf?src-supplier=Element14; ComponentLink6URL: https://datasheet.ciiva.com/9180/aoa0000ce26-9180731.pdf?src-supplier=Avnet; ComponentLink6Description: https://datasheet.ciiva.com/9180/aoa0000ce26-9180731.pdf?src-supplier=Avnet; ComponentLink7URL: https://datasheet.ciiva.com/30251/54aoa0000ce26-30251500.pdf?src-supplier=Onlinecomponents.com; ComponentLink7Description: https://datasheet.ciiva.com/30251/54aoa0000ce26-30251500.pdf?src-supplier=Onlinecomponents.com; ComponentLink8URL: https://datasheet.ciiva.com/48536/era-eng-tds-48536828.pdf?src-supplier=Distrelec; ComponentLink8Description: https://datasheet.ciiva.com/48536/era-eng-tds-48536828.pdf?src-supplier=Distrelec; Supplier Part Number 1: P620DACT-ND
footprint Chip Resistor 0805 (Chip Resistor, 2-Leads, Body 2.1x1.35mm, IPC Low Density)
pins: 1, 2

## Shielded-Inductor-SMD
designator L?, comment 100uH
BOURNS         SRR1210-680M.             INDUCTOR, SHIELDED, 100UH, 2.7A, SMD; Description: BOURNS         SRR1210-680M.             INDUCTOR, SHIELDED, 68UH, 2.7A, SMD; Core Material: Ferrite; Inductance Tolerance: 20%; Self Resonant Frequency: 3.8MHz; Current Rating: 3A; DC Resistance (DCR): 102mR; Test Frequency: 100kHz; Q Factor: 12; Supplier 1: Digi-Key; Manufacturer: Bourns; Manufacturer Part Number: SRR1210-680M; RoHS: Yes; Category: Fixed Inductors; Pricing 1: 1=1.27000, 10=1.18000, 25=1.08880, 50=0.90760, 100=0.85300 (USD); Mount: Surface Mount; Case/Package: 1210; Min Operating Temperature: -40°C; Max Operating Temperature: 125°C; Inductance: 100uH; Tolerance: 20%; Packaging: Tape and Reel; Shielding: Shielded; Package Quantity: 250; Max DC Current: 3A; Termination: SMD/SMT; Series: SRR1210; Saturation Current: 2.7A; RMS Current (Irms): 3A; Resistor Type: Wirewound; DC Current: 3A; Length: 12mm; Width: 0.472inch; Height: 10mm; Height - Seated (Max): 0.394inch; Depth: 12.5mm; REACH SVHC: No SVHC; RoHS Compliant: Yes; Military Standard: Not; ComponentLink1URL: https://datasheet.ciiva.com/11799/0900766b80f2b72a-11799858.pdf?src-supplier=RSComponents; ComponentLink1Description: https://datasheet.ciiva.com/11799/0900766b80f2b72a-11799858.pdf?src-supplier=RSComponents; ComponentLink2URL: https://datasheet.ciiva.com/48684/srr1210-48684857.pdf?src-supplier=Avnet; ComponentLink2Description: https://datasheet.ciiva.com/48684/srr1210-48684857.pdf?src-supplier=Avnet; ComponentLink3URL: https://datasheet.ciiva.com/17285/srr1210-17285962.pdf?src-supplier=Avnet+Europe; ComponentLink3Description: https://datasheet.ciiva.com/17285/srr1210-17285962.pdf?src-supplier=Avnet+Europe; ComponentLink4URL: https://datasheet.ciiva.com/6697/srr1210-6697611.pdf?src-supplier=Digi-Key; ComponentLink4Description: https://datasheet.ciiva.com/6697/srr1210-6697611.pdf?src-supplier=Digi-Key; ComponentLink5URL: https://datasheet.ciiva.com/46437/1430851-46437356.pdf?src-supplier=Element14; ComponentLink5Description: https://datasheet.ciiva.com/46437/1430851-46437356.pdf?src-supplier=Element14; ComponentLink6URL: https://datasheet.ciiva.com/6697/srr1210-6697613.pdf?src-supplier=Digi-Key; ComponentLink6Description: https://datasheet.ciiva.com/6697/srr1210-6697613.pdf?src-supplier=Digi-Key; ComponentLink7URL: https://datasheet.ciiva.com/46437/1430851-46437357.pdf?src-supplier=Element14; ComponentLink7Description: https://datasheet.ciiva.com/46437/1430851-46437357.pdf?src-supplier=Element14; ComponentLink8URL: https://datasheet.ciiva.com/6697/srr1210-6697615.pdf?src-supplier=Digi-Key; ComponentLink8Description: https://datasheet.ciiva.com/6697/srr1210-6697615.pdf?src-supplier=Digi-Key; Supplier Part Number 1: SRR1210-680MCT-ND
footprint SHIELDED-INDUCTOR-SMD (100uH, FP-SRR1210-MFG)
pins: 1, 2

## Shielded-Inductor-SMD-1mH
designator L?, comment 1000uH
Fixed Inductors WE-PD 1280 1000uH .6A 1.82Ohm; Manufacturer: Wurth Electronics; Manufacturer Part Number: 74477030; Core Material: Ferrite; Self Resonant Frequency: 1.8MHz; Current Rating: 600mA; Shielding: Shielded; Inductance: 1mH; DC Resistance (DCR): 1.82R; Test Frequency: 1kHz; Tolerance: 20%; Saturation Current: 700mA; Supplier 1: Digi-Key; RoHS: Yes; Category: Fixed Inductors; Stock 1: 1000; Pricing 1: 1=2,25000, 10=2,10000, 50=1,95000, 100=1,78000, 250=1,59000 (USD); Mount: Surface Mount; Case/Package: Nonstandard; Number of Pins: 2; Weight: 0.01lb; Min Operating Temperature: -40°C; Max Operating Temperature: 125°C; Package Quantity: 500; Packaging: Tape and Reel; Max DC Current: 600mA; Termination: SMD/SMT; Inductance Tolerance: 20%; Resistor Type: Wirewound; RMS Current (Irms): 600mA; Series Resistance: 1.82R; Resistance: 1.82R; Length: 12mm; Width: 12mm; Height: 8mm; Height - Seated (Max): 0.315inch; Depth: 12mm; REACH SVHC: Unknown; Lead Free: Lead Free; ComponentLink1URL: https://datasheet.ciiva.com/6690/74477030-6690613.pdf?src-supplier=Digi-Key; ComponentLink1Description: https://datasheet.ciiva.com/6690/74477030-6690613.pdf?src-supplier=Digi-Key; ComponentLink2URL: https://datasheet.ciiva.com/11800/0900766b80803168-11800316.pdf?src-supplier=RSComponents; ComponentLink2Description: https://datasheet.ciiva.com/11800/0900766b80803168-11800316.pdf?src-supplier=RSComponents; ComponentLink3URL: https://datasheet.ciiva.com/4954/74477030-36071-4954669.pdf?src-supplier=Mouser; ComponentLink3Description: https://datasheet.ciiva.com/4954/74477030-36071-4954669.pdf?src-supplier=Mouser; ComponentLink4URL: https://datasheet.ciiva.com/6690/74477030-6690615.pdf?src-supplier=Digi-Key; ComponentLink4Description: https://datasheet.ciiva.com/6690/74477030-6690615.pdf?src-supplier=Digi-Key; ComponentLink5URL: https://datasheet.ciiva.com/6690/74477030-6690618.pdf?src-supplier=Digi-Key; ComponentLink5Description: https://datasheet.ciiva.com/6690/74477030-6690618.pdf?src-supplier=Digi-Key; ComponentLink6URL: https://datasheet.ciiva.com/26307/rb74477030-data-de-26307866.pdf?src-supplier=Distrelec; ComponentLink6Description: https://datasheet.ciiva.com/26307/rb74477030-data-de-26307866.pdf?src-supplier=Distrelec; Supplier Part Number 1: 732-1694-1-ND
footprint SMT-1mH (SMD Inductor, 2-Leads, Body 12.0 x 12.0 mm)
pins: 1, 2

## THT-1mH
designator L?
Inductor THT radial RF 1mH; Manufacturer: Bourns; Manufacturer Part Number: RL622-102K-RC; Core Material: Ferrite; Self Resonant Frequency: 1.3MHz; Current Rating: 290mA; Shielding: Unshielded; DC Resistance (DCR): 2.9R; Test Frequency: 252kHz; Tolerance: 10%; Q Factor: 50; Lead Diameter: 0.62mm; Lead Length: 5mm; Supplier 1: Digi-Key; RoHS: Yes; Category: Fixed Inductors; Stock 1: 581; Pricing 1: 1=0,95000, 10=0,87800, 25=0,81000, 50=0,67500, 100=0,63450, 250=0,56700, 500=0,48600, 1000=0,43200, 2500=0,41850 (USD); Mount: Through Hole,Radial; Case/Package: Radial; Number of Pins: 2; Contact Plating: Tin; Min Operating Temperature: -55°C; Max Operating Temperature: 105°C; Packaging: Bulk; Package Quantity: 100; Inductance: 1mH; Max DC Current: 290mA; Termination: Radial; Inductance Tolerance: 10%; Resistor Type: Wirewound; RMS Current (Irms): 290mA; DC Current: 290mA; Orientation: Vertical; Lead/Base Style: Radial; Diameter: 8.5mm; Width: 8.5mm; Height: 11mm; Height - Seated (Max): 0.433inch; Lead Pitch: 5mm; Radiation Hardening: No; REACH SVHC: No SVHC; Military Standard: Not; Lead Free: Lead Free; ComponentLink1URL: https://datasheet.ciiva.com/11797/0900766b80fa594f-11797342.pdf?src-supplier=RSComponents; ComponentLink1Description: https://datasheet.ciiva.com/11797/0900766b80fa594f-11797342.pdf?src-supplier=RSComponents; ComponentLink2URL: https://datasheet.ciiva.com/1050/rl622-series-1050732.pdf?src-supplier=Digi-Key; ComponentLink2Description: https://datasheet.ciiva.com/1050/rl622-series-1050732.pdf?src-supplier=Digi-Key; Supplier Part Number 1: M10005-ND
footprint THT-1mH (THD, 2-Leads, Dia 8.5mm, Pitch 5mm)
pins: 1, 2